# EAGLE library part STM32F405 (library Other)
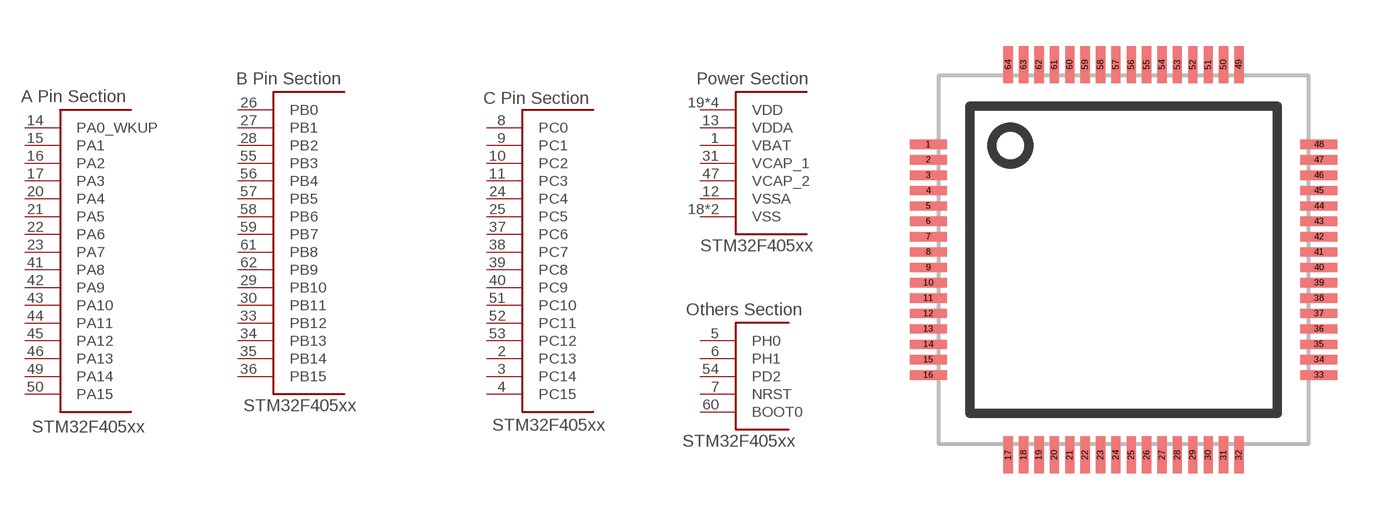
[diagram p14: symbol with the pads of LQFP64; footprint LQFP64]

Designator prefix -; gates G$1=PINSECTION-A G$2=PINSECTION-B-1 G$3=PINSECTION-C G$4=POWER-2 G$5=OTHERS-1

## STM32F405  [LQFP64]
1  G$4:VBAT
2  G$3:PC13
3  G$3:PC14
4  G$3:PC15
5  G$5:PH0
6  G$5:PH1
7  G$5:NRST
8  G$3:PC0
9  G$3:PC1
10  G$3:PC2
11  G$3:PC3
12  G$4:VSSA
13  G$4:VDDA
14  G$1:PA0_WKUP
15  G$1:PA1
16  G$1:PA2
17  G$1:PA3
18  G$4:VSS
19  G$4:VDD
20  G$1:PA4
21  G$1:PA5
22  G$1:PA6
23  G$1:PA7
24  G$3:PC4
25  G$3:PC5
26  G$2:PB0
27  G$2:PB1
28  G$2:PB2
29  G$2:PB10
30  G$2:PB11
31  G$4:VCAP_1
32  G$4:VDD
33  G$2:PB12
34  G$2:PB13
35  G$2:PB14
36  G$2:PB15
37  G$3:PC6
38  G$3:PC7
39  G$3:PC8
40  G$3:PC9
41  G$1:PA8
42  G$1:PA9
43  G$1:PA10
44  G$1:PA11
45  G$1:PA12
46  G$1:PA13
47  G$4:VCAP_2
48  G$4:VDD
49  G$1:PA14
50  G$1:PA15
51  G$3:PC10
52  G$3:PC11
53  G$3:PC12
54  G$5:PD2
55  G$2:PB3
56  G$2:PB4
57  G$2:PB5
58  G$2:PB6
59  G$2:PB7
60  G$5:BOOT0
61  G$2:PB8
62  G$2:PB9
63  G$4:VSS
64  G$4:VDD

## Footprint LQFP64 (pad centres in mm)
LQFP64 print: 64 pins - pins counted counterclockwise starting from upper most pin on the left section - dot signifies pin 1
smd 1.2 x 0.3: 1 -6.35,3.75; 2 -6.35,3.25; 3 -6.35,2.75; 4 -6.35,2.25; 5 -6.35,1.75; 6 -6.35,1.25; 7 -6.35,0.75; 8 -6.35,0.25; 9 -6.35,-0.25; 10 -6.35,-0.75; 11 -6.35,-1.25; 12 -6.35,-1.75; 13 -6.35,-2.25; 14 -6.35,-2.75; 15 -6.35,-3.25; 16 -6.35,-3.75; 33 6.35,-3.75; 34 6.35,-3.25; 35 6.35,-2.75; 36 6.35,-2.25; 37 6.35,-1.75; 38 6.35,-1.25; 39 6.35,-0.75; 40 6.35,-0.25; 41 6.35,0.25; 42 6.35,0.75; 43 6.35,1.25; 44 6.35,1.75; 45 6.35,2.25; 46 6.35,2.75; 47 6.35,3.25; 48 6.35,3.75
smd 0.3 x 1.2: 17 -3.75,-6.35; 18 -3.25,-6.35; 19 -2.75,-6.35; 20 -2.25,-6.35; 21 -1.75,-6.35; 22 -1.25,-6.35; 23 -0.75,-6.35; 24 -0.25,-6.35; 25 0.25,-6.35; 26 0.75,-6.35; 27 1.25,-6.35; 28 1.75,-6.35; 29 2.25,-6.35; 30 2.75,-6.35; 31 3.25,-6.35; 32 3.75,-6.35; 49 3.75,6.35; 50 3.25,6.35; 51 2.75,6.35; 52 2.25,6.35; 53 1.75,6.35; 54 1.25,6.35; 55 0.75,6.35; 56 0.25,6.35; 57 -0.25,6.35; 58 -0.75,6.35; 59 -1.25,6.35; 60 -1.75,6.35; 61 -2.25,6.35; 62 -2.75,6.35; 63 -3.25,6.35; 64 -3.75,6.35